# Altium footprint library CON 5X2_Ribbon.PcbLib: 1 footprints
Each footprint in its own frame and in the unit in brackets; x right, y up, seen from the top. Pads: shape width x height; smd on the part's side, far side on the other; paste and mask are expansions set on the pad; w line width, h text height; cw(c..) or ccw(c..) is an arc to the next point about the centre after c.
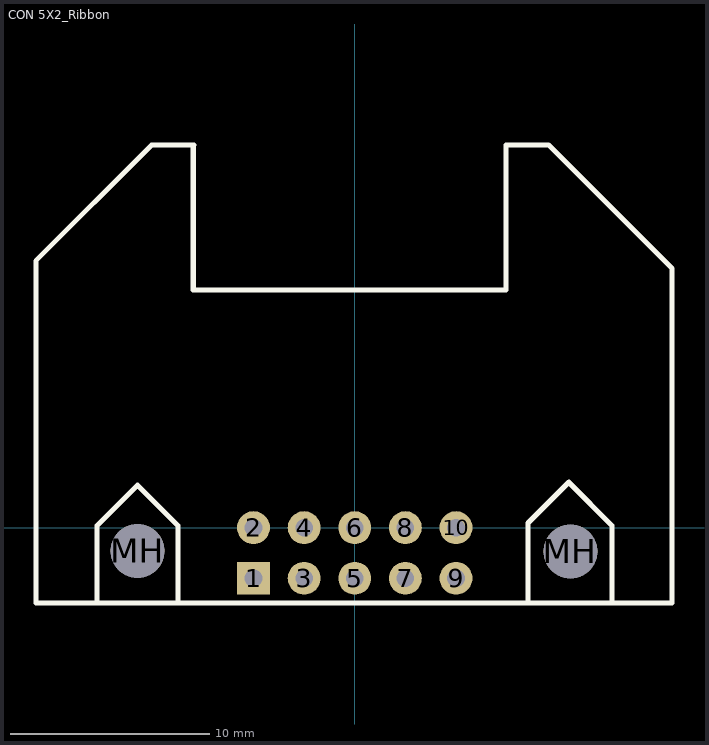
[diagram p0: the footprint, top view; thin cyan lines are the x and y axes]

## CON 5X2_Ribbon [mil] "Ribbon Connector"
pads (12):
  rect 65x65 hole 35: 1(-200,-100)
  round 65 hole 35: 2(-200,0) 3(-100,-100) 4(-100,0) 5(0,-100) 6(0,0) 7(100,-100) 8(100,0) 9(200,-100) 10(200,0)
  round 106 hole 106: MH(-429,-46) MH(426,-47)
Top Overlay:
  lines w10: -509,-149 -509,4 -429,84 -349,4 -349,-147 ; 342,-149 342,9 423,90 423,89 508,4 508,-149 ; -630,-149 -465,-149 164,-149 331,-149 483,-149 627,-149 627,-87 627,-6 627,126 627,512 609.5,529.5 383,756 299,756 299,469 -319,469 -319,755 -318,756 -401,756 -630,527 -630,337 -630,-149
3D body: height 347.32, standoff -117.24, extent -630,-150 629.84,757.08